# Altium footprint library Drone.PcbLib: 11 footprints
Each footprint in its own frame and in the unit in brackets; x right, y up, seen from the top. Pads: shape width x height; smd on the part's side, far side on the other; paste and mask are expansions set on the pad; w line width, h text height; cw(c..) or ccw(c..) is an arc to the next point about the centre after c.
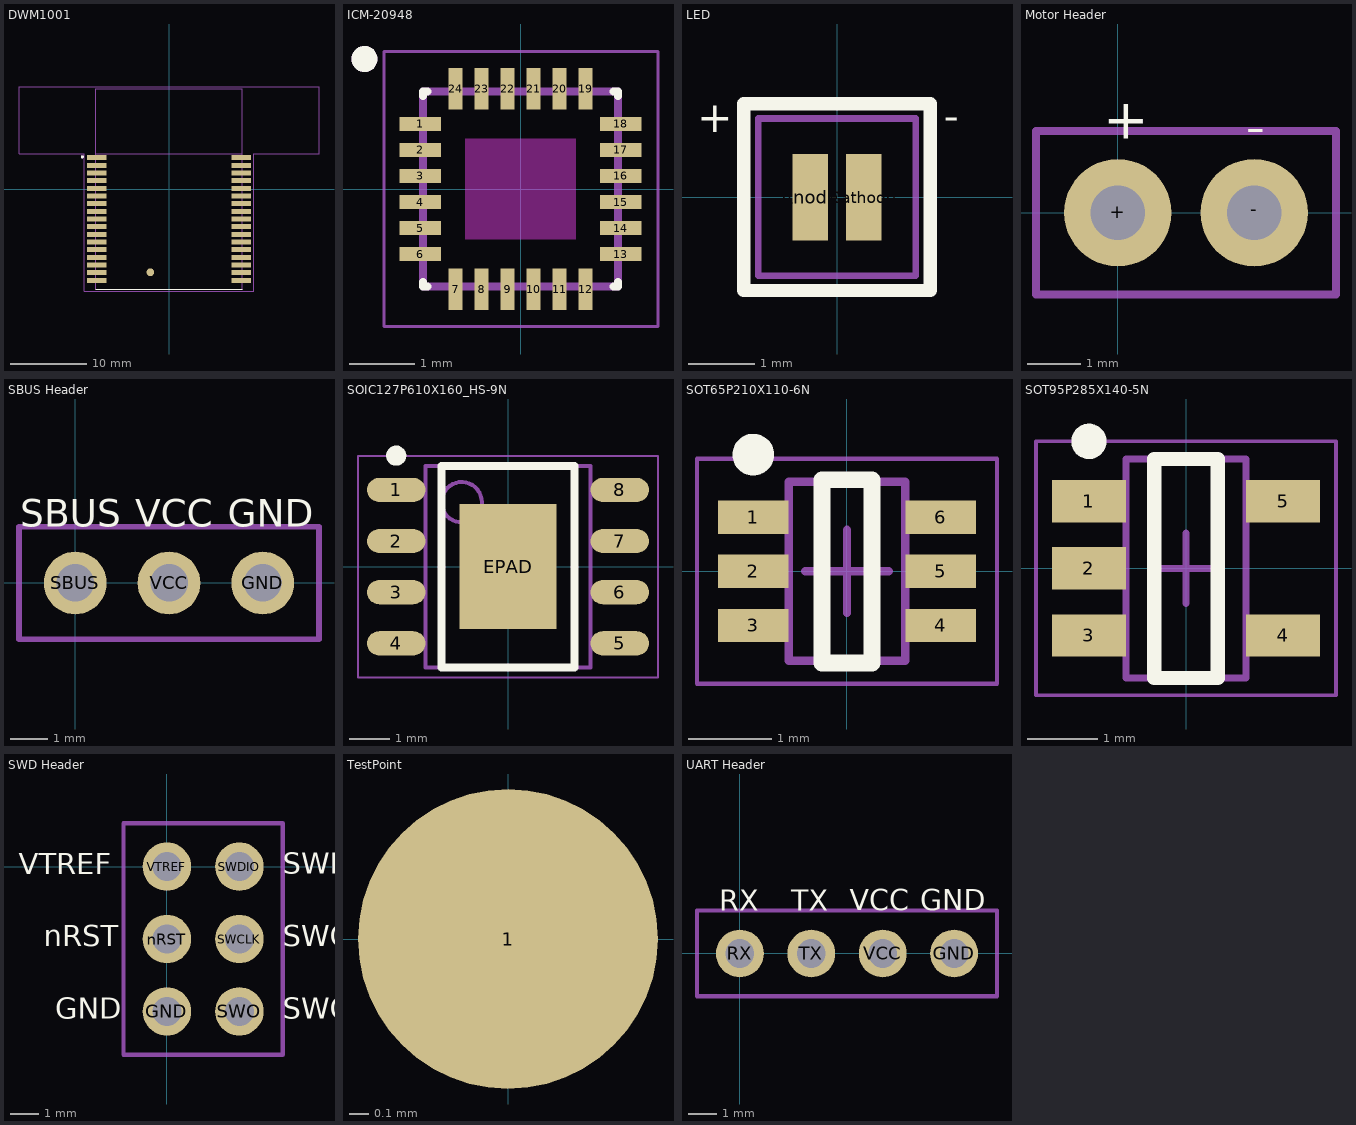
[diagram p0: the footprints below, top view; thin cyan lines are the x and y axes]

## DWM1001 [mm]
pads (35):
  rect 2.54x0.65 smd: 1(-9.42,4.085) 2(-9.42,3.085) 3(-9.42,2.085) 4(-9.42,1.085) 5(-9.42,0.085) 6(-9.42,-0.915) 7(-9.42,-1.915) 8(-9.42,-2.915) 9(-9.42,-3.915) 10(-9.42,-4.915) 11(-9.42,-5.915) 12(-9.42,-6.915) 13(-9.42,-7.915) 14(-9.42,-8.915) 15(-9.42,-9.915) 16(-9.42,-10.915) 17(-9.42,-11.915) 18(9.42,-11.915) 19(9.42,-10.915) 20(9.42,-9.915) 21(9.42,-8.915) 22(9.42,-7.915) 23(9.42,-6.915) 24(9.42,-5.915) 25(9.42,-4.915) 26(9.42,-3.915) 27(9.42,-2.915) 28(9.42,-1.915) 29(9.42,-0.915) 30(9.42,0.085) 31(9.42,1.085) 32(9.42,2.085) 33(9.42,3.085) 34(9.42,4.085)
  round 1 smd: 35(-2.435,-10.865)
Top Overlay:
  circle w0.2: c-11.3,4.2 r0.1
  lines w0.127: -9.565,-13.065 9.565,-13.065
Mechanical 13:
  circle w0.2: c-11.3,4.2 r0.1
  lines w0.127: -9.565,4.585 9.565,4.585 ; -9.565,4.585 -9.565,13.065 9.565,13.065 9.565,4.585 ; -9.565,4.585 -9.565,-13.065 9.565,-13.065 9.565,4.585
  text "Non-GROUND" at -5.9,9.3 h1.27
Mechanical 15:
  lines w0.05: -19.565,4.585 -19.565,13.315 19.565,13.315 19.565,4.585 11.085,4.585 11.085,-13.315 -11.085,-13.315 -11.085,4.585 -19.565,4.585
3D body "dwm1001 v2.step": height 3.2, standoff 0, extent -9.565,-13.039 9.565,13.081

## ICM-20948 [mm]
pads (24):
  rect 0.64x0.22 smd mask+0.025: 1(-1.545,1) 2(-1.545,0.6) 3(-1.545,0.2) 4(-1.545,-0.2) 5(-1.545,-0.6) 6(-1.545,-1) 13(1.545,-1) 14(1.545,-0.6) 15(1.545,-0.2) 16(1.545,0.2) 17(1.545,0.6) 18(1.545,1)
  rect 0.22x0.64 smd mask+0.025: 7(-1,-1.545) 8(-0.6,-1.545) 9(-0.2,-1.545) 10(0.2,-1.545) 11(0.6,-1.545) 12(1,-1.545) 19(1,1.545) 20(0.6,1.545) 21(0.2,1.545) 22(-0.2,1.545) 23(-0.6,1.545) 24(-1,1.545)
Top Overlay:
  circle w0.2: c-2.4,2 r0.1
  lines w0.127: -1.5,-1.43 -1.5,-1.5 -1.43,-1.5 ; -1.5,1.43 -1.5,1.5 -1.43,1.5 ; 1.43,-1.5 1.5,-1.5 1.5,-1.43 ; 1.43,1.5 1.5,1.5 1.5,1.43
Keep-Out Layer:
  region: 0.85,-0.77 -0.85,-0.77 -0.85,0.77 0.85,0.77
  region: 0.85,-0.77 -0.85,-0.77 -0.85,0.77 0.85,0.77
Mechanical 13:
  circle w0.2: c-2.4,2 r0.1
  lines w0.127: -1.5,-1.5 1.5,-1.5 1.5,1.5 -1.5,1.5 -1.5,-1.5
Mechanical 15:
  lines w0.05: -2.1,-2.115 2.115,-2.115 2.115,2.115 -2.1,2.115 -2.1,-2.115
3D body "step_temp.STEP": height 1, standoff -0.05, extent -1.5,-1.5 1.5,1.5

## LED [mm] "Chip Diode, 2-Leads, Body 2.36x2.36mm, IPC Medium Density"
height 0.38
pads (2):
  rect 0.53x1.3 smd mask+0.05: Anode(-0.4,0) Cathode(0.4,0)
Top Overlay:
  lines w0.2: -1.4,-1.4 1.4,-1.4 1.4,1.4 -1.4,1.4 -1.4,-1.4
  text "-" at 1.6,0.847 h0.8
  text "+" at -2.1,0.817 h0.8
Mechanical 13:
  lines w0.1: -1.18,-1.18 1.18,-1.18 1.18,1.18 -1.18,1.18 -1.18,-1.18
Mechanical 15:
  lines w0.05: -1.4,-1.4 1.4,-1.4 1.4,1.4 -1.4,1.4 -1.4,-1.4

## Motor Header [mm]
pads (2):
  round 2 hole 1.016: +(0,0) -(2.54,0)
Top Overlay:
  text "+" at -0.268,1.139 h1.27
  text "-" at 2.386,1.026 h1.27
Mechanical 15:
  lines w0.15: -1.524,-1.524 -1.524,1.524 4.064,1.524 4.064,-1.524 -1.524,-1.524

## SBUS Header [mm]
pads (3):
  round 1.7 hole 1.016: GND(5.08,0) SBUS(0,0) VCC(2.54,0)
Top Overlay:
  text "VCC" at 1.62,1.283 h1.27
  text "SBUS" at -1.492,1.283 h1.27
  text "GND" at 4.132,1.283 h1.27
Mechanical 15:
  lines w0.15: -1.524,-1.524 -1.524,1.524 6.604,1.524 6.604,-1.524 -1.524,-1.524

## SOIC127P610X160_HS-9N [mm] "SOIC, 8-Leads, Body 5.00x4.05mm, Pitch 1.27mm, Thermal Pad 3.10x2.41mm, IPC Medium Density"
height 1.6
pads (9):
  oval 1.45x0.6 smd: 1(-2.775,1.905) 2(-2.775,0.635) 3(-2.775,-0.635) 4(-2.775,-1.905) 5(2.775,-1.905) 6(2.775,-0.635) 7(2.775,0.635) 8(2.775,1.905)
  rect 2.41x3.1 smd: EPAD(0,0)
Top Overlay:
  circle w0.25: c-2.775,2.755 r0.125
  lines w0.2: -1.65,-2.5 1.65,-2.5 1.65,2.5 -1.65,2.5 -1.65,-2.5
Mechanical 13:
  circle w0.1: c-1.15,1.6 r0.5
  lines w0.1: -2.05,-2.5 2.05,-2.5 2.05,2.5 -2.05,2.5 -2.05,-2.5
Mechanical 15:
  lines w0.05: -3.725,-2.75 3.725,-2.75 3.725,2.75 -3.725,2.75 -3.725,-2.75
  lines w0.1: -0.5,0 0.5,0 ; 0,-0.5 0,0.5
3D body "SOIC-8_ME_MCH.step": height 1.68, standoff -0.05, extent -3.099,-2.489 3.099,2.489

## SOT65P210X110-6N [mm] "SOT23, 6-Leads, Body 2.00x2.10mm, Pitch 0.65mm, IPC Medium Density"
height 1.1
pads (6):
  rect 0.85x0.4 smd mask+0.051: 1(-1.125,0.65) 2(-1.125,0) 3(-1.125,-0.65) 4(1.125,-0.65) 5(1.125,0) 6(1.125,0.65)
Top Overlay:
  circle w0.25: c-1.125,1.4 r0.125
  lines w0.2: -0.3,-1.1 -0.3,1.1 0.3,1.1 0.3,-1.1 -0.3,-1.1
Mechanical 13:
  lines w0.1: -0.7,-1.075 0.7,-1.075 0.7,1.075 -0.7,1.075 -0.7,-1.075
Mechanical 15:
  lines w0.05: -1.8,-1.35 1.8,-1.35 1.8,1.35 -1.8,1.35 -1.8,-1.35
  lines w0.1: -0.5,0 0.5,0 ; 0,-0.5 0,0.5
3D body "SOT65P210X110-6N.step": height 1.1, standoff 0, extent -1.2,-1.075 1.2,1.075

## SOT95P285X140-5N [mm] "SOT23, 5-Leads, Body 3.00x2.85mm, Pitch 0.95mm, IPC Medium Density"
height 1.4
pads (5):
  rect 1.05x0.6 smd: 1(-1.375,0.95) 2(-1.375,0) 3(-1.375,-0.95) 4(1.375,-0.95) 5(1.375,0.95)
Top Overlay:
  circle w0.25: c-1.375,1.8 r0.125
  lines w0.2: -0.45,-1.55 -0.45,1.55 0.45,1.55 0.45,-1.55 -0.45,-1.55
Mechanical 13:
  lines w0.1: -0.85,-1.55 0.85,-1.55 0.85,1.55 -0.85,1.55 -0.85,-1.55
Mechanical 15:
  lines w0.05: -2.125,-1.8 2.125,-1.8 2.125,1.8 -2.125,1.8 -2.125,-1.8
  lines w0.1: -0.5,0 0.5,0 ; 0,-0.5 0,0.5
3D body "SOT95P285X140-5N.step": height 1.4, standoff 0, extent -1.5,-1.55 1.5,1.55

## SWD Header [mm]
pads (6):
  round 1.7 hole 1.016: GND(0,-5.08) nRST(0,-2.54) SWCLK(2.54,-2.54) SWDIO(2.54,0) SWO(2.54,-5.08) VTREF(0,0)
Top Overlay:
  text "VTREF" at -5.191,-0.508 h1.27
  text "GND" at -3.928,-5.575 h1.27
  text "SWO" at 4.064,-5.575 h1.27
  text "SWCLK" at 4.064,-3.035 h1.27
  text "nRST" at -4.329,-3.035 h1.27
  text "SWDIO" at 4.064,-0.495 h1.27
Mechanical 15:
  lines w0.15: -1.524,-6.604 4.064,-6.604 4.064,1.524 -1.524,1.524 -1.524,-6.604

## TestPoint [mil]
pads (1):
  round 60 smd paste-999: 1(0,0)

## UART Header [mm]
pads (4):
  round 1.7 hole 1.016: GND(7.62,0) RX(0,0) TX(2.54,0) VCC(5.08,0)
Top Overlay:
  text "GND" at 6.418,1.283 h1.27
  text "VCC" at 3.906,1.283 h1.27
  text "TX" at 1.831,1.27 h1.27
  text "RX" at -0.741,1.27 h1.27
Mechanical 15:
  lines w0.15: -1.524,-1.524 9.144,-1.524 9.144,1.524 -1.524,1.524 -1.524,-1.524